# Altium schematic symbol library 1337009.SchLib: 1 symbol
Pins are listed as number, name and electrical type; pins without a type are passive.

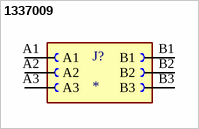
[diagram p0: symbol 1337009]

## 1337009
designator J?
MP: 1337009; Package: None; Price: None; Value: *; Availability: Unavailable
footprint PHOENIX_1337009
pins: A1, A2, A3, B1, B2, B3